# Altium footprint library Tantalum Case-B.PcbLib: 1 footprints
Each footprint in its own frame and in the unit in brackets; x right, y up, seen from the top. Pads: shape width x height; smd on the part's side, far side on the other; paste and mask are expansions set on the pad; w line width, h text height; cw(c..) or ccw(c..) is an arc to the next point about the centre after c.
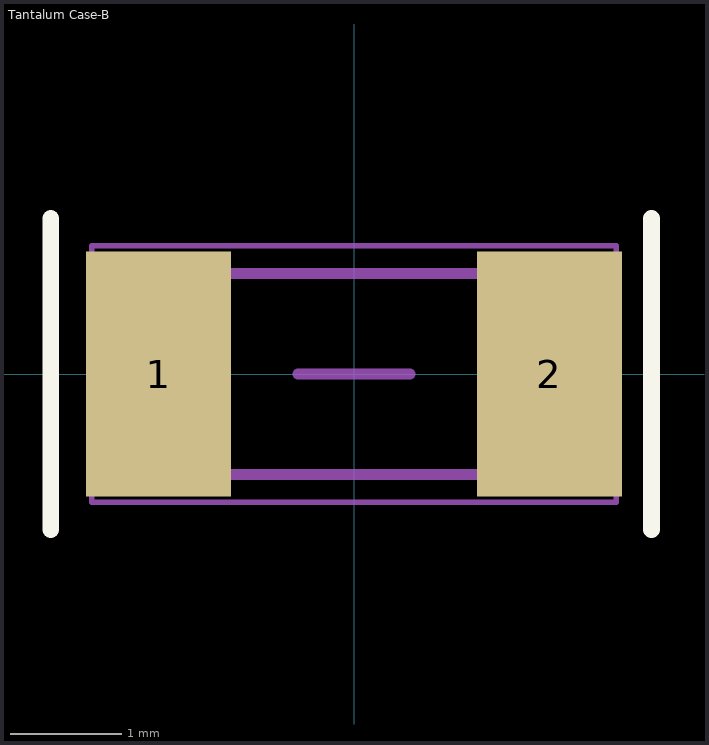
[diagram p0: the footprint, top view; thin cyan lines are the x and y axes]

## Tantalum Case-B [mm]
pads (2):
  rect 1.3x2.2 smd: 1(-1.753,0) 2(1.753,0)
Top Overlay:
  lines w0.15: -2.718,-1.397 -2.718,1.397 ; 2.667,-1.397 2.667,1.397
  text "." at -1.903,-1.829 h5
Mechanical 13:
  lines w0.1: -1.7,-0.9 -1.7,0.9 1.7,0.9 1.7,-0.9 -1.7,-0.9
Mechanical 15:
  lines w0.05: -2.35,-1.15 -2.35,1.15 2.35,1.15 2.35,-1.15 -2.35,-1.15
  lines w0.1: -0.5,0 0.5,0
3D body "B 3528-21.step": height 1.91, standoff 0, extent -1.75,-1.4 1.75,1.4